# EAGLE library part ATAES132 (library SparkFun-IC-Special-Function)
Crypto 32Kb Serial EEPROM AES-128-CCM MAC Secure Storage for 128-bit keys Encrypted User Memory Readn and Write HWRNG 2.5V to 5.5V Datasheet <https://cdn.sparkfun.com/datasheets/Dev/Beagle/Atmel-8760-CryptoAuth-ATAES132-Datasheet.pdf> SparkFun Products CryptoCape <https://www.sparkfun.com/products/12773> (DEV-12773) SparkFun CryptoShield <https://www.sparkfun.com/products/13183> (DEV-13183)
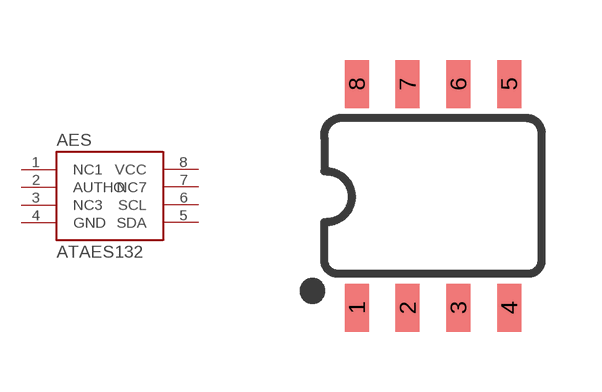
[diagram p5: symbol with the pads of SO08; footprint SO08]

Designator prefix AES

## ATAES132 (PROD_ID: IC-11983; VALUE: ATAES132)  [SO08]
1  NC1  nc
2  AUTHO
3  NC3  nc
4  GND  pwr
5  SDA
6  SCL
7  NC7  nc
8  VCC  pwr

## Footprint SO08 (pad centres in mm)
SOIC, 0.15 inch width
smd 0.6 x 1.2: 1 -1.905,-2.8; 2 -0.635,-2.8; 3 0.635,-2.8; 4 1.905,-2.8; 5 1.905,2.8; 6 0.635,2.8; 7 -0.635,2.8; 8 -1.905,2.8